# Altium footprint library iBox_Telma.PcbLib: 41 footprints (part 1 of 3)
Each footprint in its own frame and in the unit in brackets; x right, y up, seen from the top. Pads: shape width x height; smd on the part's side, far side on the other; paste and mask are expansions set on the pad; w line width, h text height; cw(c..) or ccw(c..) is an arc to the next point about the centre after c.
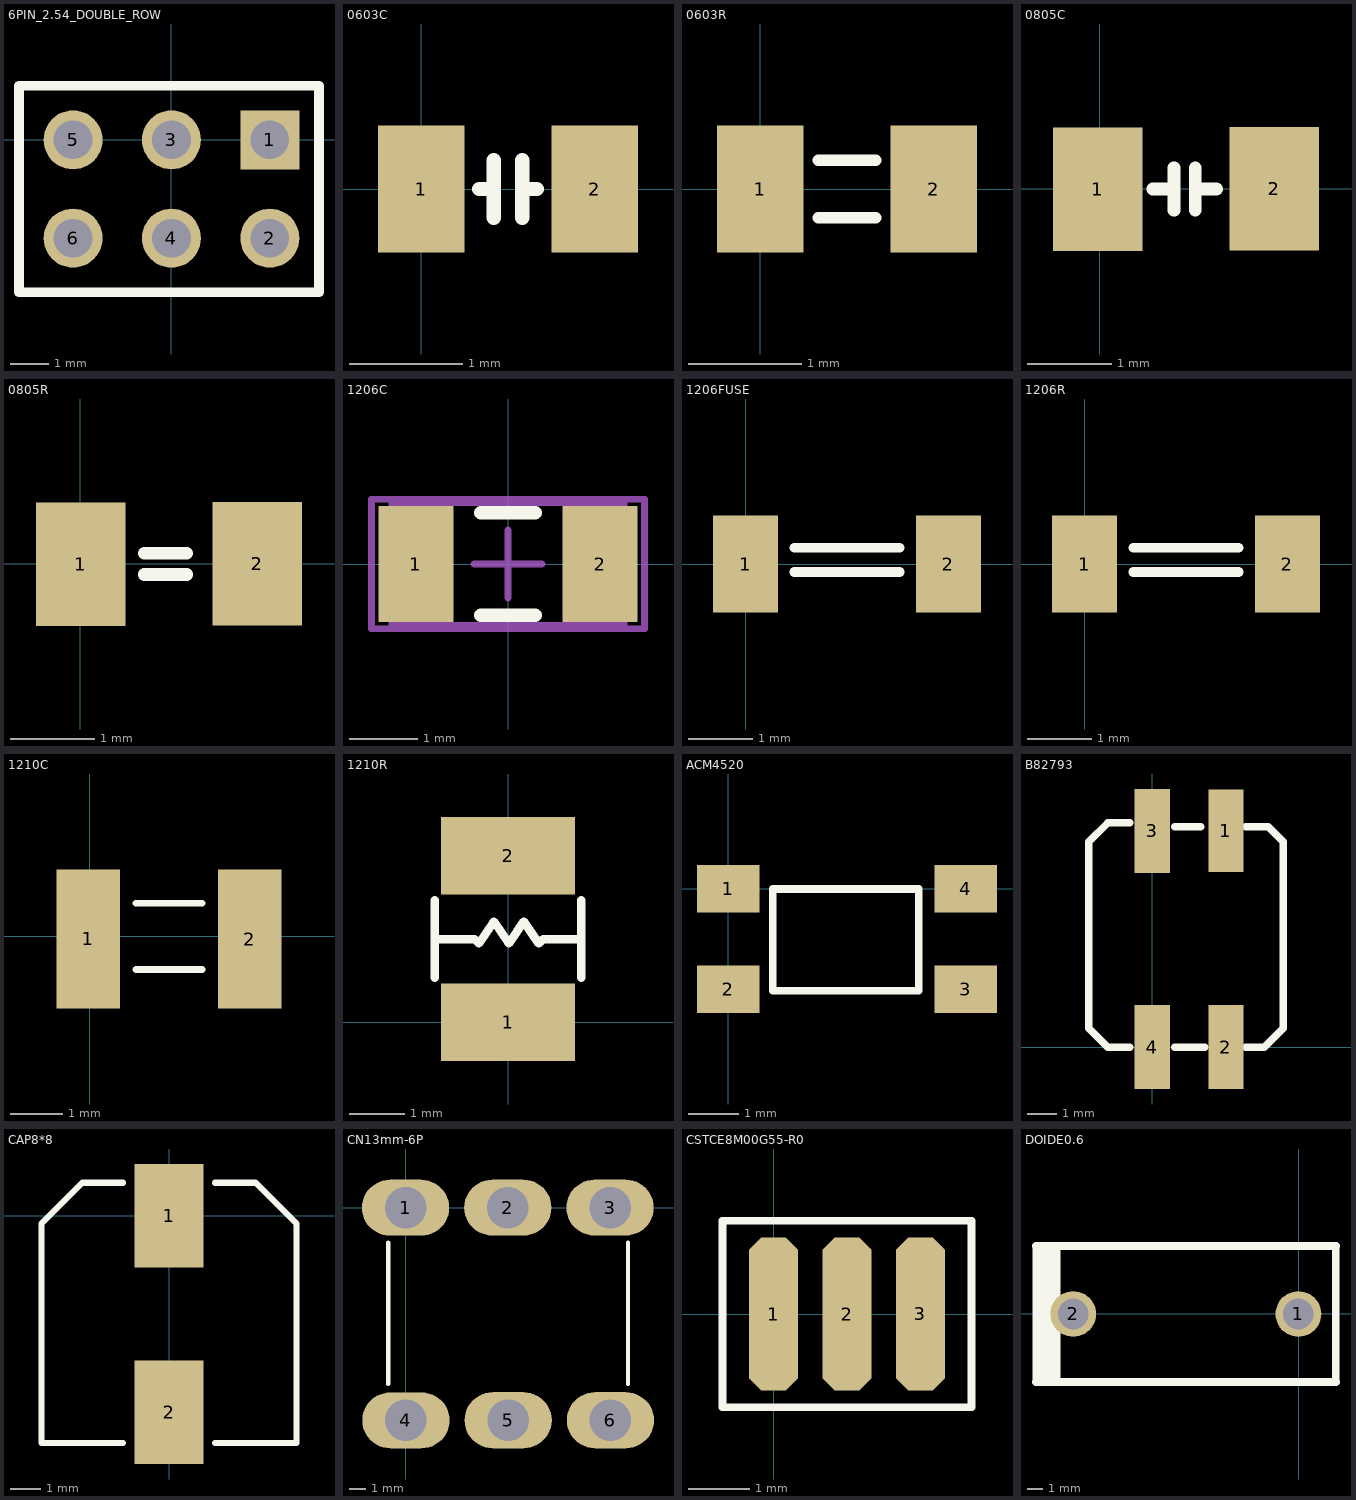
[diagram p0: the footprints below, top view; thin cyan lines are the x and y axes]

## 6PIN_2.54_DOUBLE_ROW [mil]
pads (6):
  rect 60x60 hole 39.37: 1(100,0)
  round 60 hole 39.37: 2(100,-100) 3(0,0) 4(0,-100) 5(-100,0) 6(-100,-100)
Top Overlay:
  lines w10: -155,-155 -155,55 150,55 150,-155 -155,-155
3D body "pin_3_2_2.54.stp": height 326.77, standoff -114.17, extent -150,-150 150,50

## 0603C [mil]
pads (2):
  rect 30x44 smd: 1(0,0) 2(60,0)
Top Overlay:
  lines w5: 20,0 25,0 ; 25,-10 25,10 ; 35,-10 35,10 ; 35,0 40,0
3D body "CircuitWorks-CAPACITOR 0603.STEP": height 34.93, standoff 1.07, extent -1.49,-16.17 61.5,17.69

## 0603R [mil]
pads (2):
  rect 30x44 smd: 1(0,0) 2(60,0)
Top Overlay:
  lines w4: 20,-10 40,-10 ; 20,10 40,10
3D body "CircuitWorks-RESISTOR 0603.STEP": height 18.9, standoff -1.18, extent -1.49,-16.92 61.5,16.93

## 0805C [mil]
height 759.84
pads (2):
  rect 42x58 smd: 1(-0.85,-0.08) 2(82.15,0)
Top Overlay:
  lines w6: 25,0 35,0 ; 35,-10 35,10 ; 45,-10 45,10 ; 45,0 55,0
3D body "0805_C.step": height 36.22, standoff 0, extent 2.43,-25.21 81.57,24

## 0805R [mil]
height 759.84
pads (2):
  rect 42x58 smd: 1(0.15,-0.08) 2(83.15,0)
Top Overlay:
  lines w6: 30,-5 50,-5 ; 30,5 50,5
3D body "R0805.STEP": height 21.65, standoff 0, extent 3.63,-24.8 82.37,24.81

## 1206C [mm] "Chip Capacitor, Body 3.2x1.6mm, IPC High Density"
height 1.3
pads (2):
  rect 1.1x1.7 smd: 1(-1.35,0) 2(1.35,0)
Top Overlay:
  lines w0.2: -0.4,-0.75 0.4,-0.75 ; -0.4,0.75 0.4,0.75
Mechanical 13:
  lines w0.1: -1.7,-0.9 -1.7,0.9 1.7,0.9 1.7,-0.9 -1.7,-0.9
Mechanical 15:
  lines w0.1: -0.5,0 0.5,0 ; 0,-0.5 0,0.5 ; -2,-0.95 -2,0.95 2,0.95 2,-0.95 -2,-0.95
3D body "CircuitWorks-CAPACITOR 1206.STEP": height 1.53, standoff -0.03, extent -1.6,-0.83 1.6,0.83

## 1206FUSE [mil]
height 759.84
pads (2):
  rect 40x60 smd: 1(0,0) 2(125,0)
Top Overlay:
  lines w6: 30,-5 95,-5 ; 30,10 95,10
3D body "User Library-Litttlefuse 1206.STEP": height 19.72, standoff -19.72, extent 1.97,-32.52 128.03,32.52

## 1206R [mil]
height 759.84
pads (2):
  rect 40x60 smd: 1(0,0) 2(125,0)
Top Overlay:
  lines w6: 30,-5 95,-5 ; 30,10 95,10
3D body "CircuitWorks-RESISTOR 1206.STEP": height 20.87, standoff -1.18, extent 0.01,-32.68 126,32.68

## 1210C [mil]
height 759.84
pads (2):
  rect 48x105 smd: 1(-1.08,-1.85) 2(120.97,-2)
Top Overlay:
  lines w5: 35,-25 85,-25 ; 35,25 85,25
3D body "1210_C.step": height 37.01, standoff 0, extent -1.68,-51.21 124.3,47.21

## 1210R [mil]
height 759.84
pads (2):
  rect 95x55 smd: 1(0,0.03) 2(0,118.03)
Top Overlay:
  lines w6: -51.88,31.46 -51.88,58.96 ; -51.88,59.17 -51.88,86.67 ; -50.67,58.96 -23.8,58.96 -20.68,55.83 -10.05,71.46 0.57,55.83 11.2,71.46 21.82,55.83 ; 21.88,55.83 25,58.96 49.79,58.96 ; 51.88,31.46 51.88,58.96 ; 51.88,59.17 51.88,86.67
3D body "User Library-res1210.STEP": height 24.79, standoff 0, extent -53.03,-25.16 53.27,140.2

## ACM4520 [mm]
height 1.1
pads (4):
  rect 1.25x0.95 smd: 1(0,0) 2(0,-2) 3(4.75,-2) 4(4.75,0)
Top Overlay:
  lines w0.152: 0.889,-2.032 0.889,0 3.81,0 3.81,-2.032 0.889,-2.032
3D body "User Library-ACM4532-1.STEP": height 3.13, standoff -0.13, extent 0.105,-2.467 4.721,0.533

## B82793 [mm]
pads (4):
  rect 1.2x2.8 smd: 1(2.5,7.35)
  rect 1.2x2.85 smd: 2(2.5,0) 3(0,7.35) 4(0,0)
Top Overlay:
  lines w0.254: -0.762,0 -1.524,0 -2.159,0.635 -2.159,6.985 -1.524,7.62 -0.762,7.62 ; 0.762,0 1.778,0 ; 0.762,7.493 1.651,7.493 ; 3.175,0 3.81,0 4.445,0.635 4.445,6.985 3.937,7.493 3.175,7.493
3D body "User Library-B82793C0_full.STEP": height 4.75, standoff -0.08, extent -1.857,-0.354 4.143,7.72

## CAP8*8 [mil]
pads (2):
  rect 90x135 smd: 1(0.1,0.33) 2(0,-256.2)
Top Overlay:
  lines w8: -60,-296.25 -166.25,-296.25 -166.25,-9.79 -113.12,43.33 -60,43.33 ; 60,-296.25 166.25,-296.25 166.25,-9.79 113.12,43.33 60,43.33
3D body "User Library-AL_EL_cap_8mmx10mm.STEP": height 405.55, standoff -7.87, extent -164.64,-315.95 170,65.95

## CN13mm-6P [mil]
pads (6):
  oval 210x135 hole 100: 1(-0.78,-0.13) 2(245.23,0) 3(491.29,0) 4(0,-511.81) 5(246.06,-511.67) 6(492.13,-511.67)
Top Overlay:
  lines w10: -42.5,-424.17 -42.5,-84.17 ; 534.17,-424.17 534.17,-84.17
3D body "小铜排.STEP": height 393.7, standoff 0, extent -64.96,-540.59 564.96,10.6

## CSTCE8M00G55-R0 [mm]
pads (3):
  oct 0.8x2.5 smd: 1(0,0) 2(1.2,0) 3(2.4,0)
Top Overlay:
  lines w0.127: -0.832,-1.524 -0.832,1.524 -0.324,1.524 3.232,1.524 3.232,-1.524 -0.832,-1.524
3D body "晶振.STEP": height 0.7, standoff -0.01, extent -0.33,-0.66 2.87,0.66

## DOIDE0.6 [mil]
pads (2):
  round 120 hole 80: 1(-0.2,0) 2(-590.75,0)
Top Overlay:
  rectangle: -682.5,-175.83 -634.58,172.29
  lines w20: -688.33,-178.33 98.33,-178.33 ; -688.33,178.33 98.33,178.33 ; -688,-178.33 -688,178.33 ; -633.75,-171.25 -633.75,176.67 ; 98,-178.33 98,178.33